# Altium footprint library SOT-23A-3.PcbLib: 1 footprints
Each footprint in its own frame and in the unit in brackets; x right, y up, seen from the top. Pads: shape width x height; smd on the part's side, far side on the other; paste and mask are expansions set on the pad; w line width, h text height; cw(c..) or ccw(c..) is an arc to the next point about the centre after c.
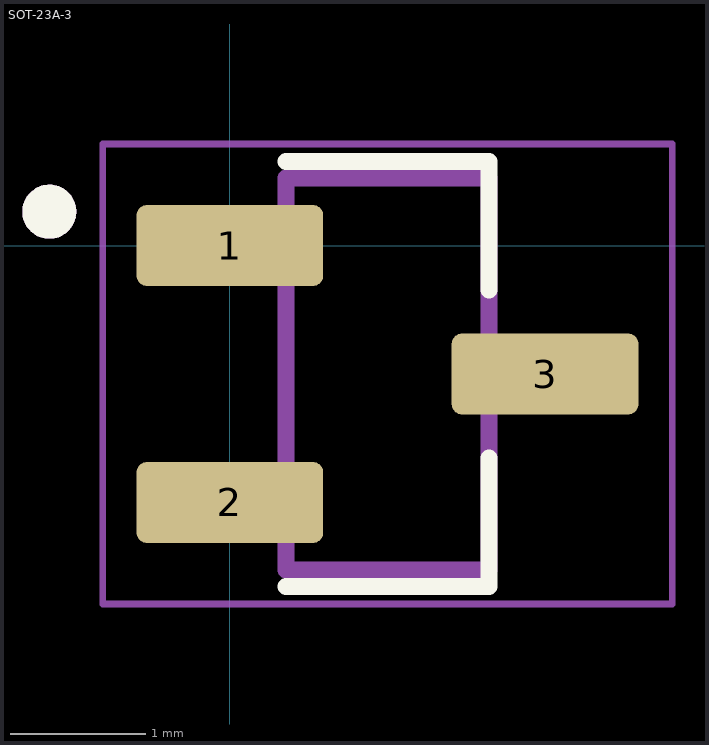
[diagram p0: the footprint, top view; thin cyan lines are the x and y axes]

## SOT-23A-3 [mm]
pads (3):
  rrect25% 1.38x0.6 smd: 1(0,0) 2(0,-1.9) 3(2.33,-0.95)
Top Overlay:
  circle w0.2: c-1.335,0.25 r0.1
  lines w0.127: 0.415,-2.52 1.915,-2.52 1.915,-1.57 ; 0.415,0.62 1.915,0.62 1.915,-0.33
Mechanical 13:
  circle w0.2: c-1.335,0.25 r0.1
  lines w0.127: 0.415,-2.4 1.915,-2.4 1.915,0.5 0.415,0.5 0.415,-2.4
Mechanical 15:
  lines w0.05: -0.94,-2.65 -0.94,0.75 3.27,0.75 3.27,-2.65 -0.94,-2.65
3D body "SOT23-3.stp": height 1.2, standoff 0.02, extent -0.243,-2.45 2.593,0.55